# EAGLE library part BMD-100 (library Bluetooth)
RF TXRX MOD BLUETOOTH CHIP ANT Datasheet <https://www.rigado.com/?wpdmdl=1646>
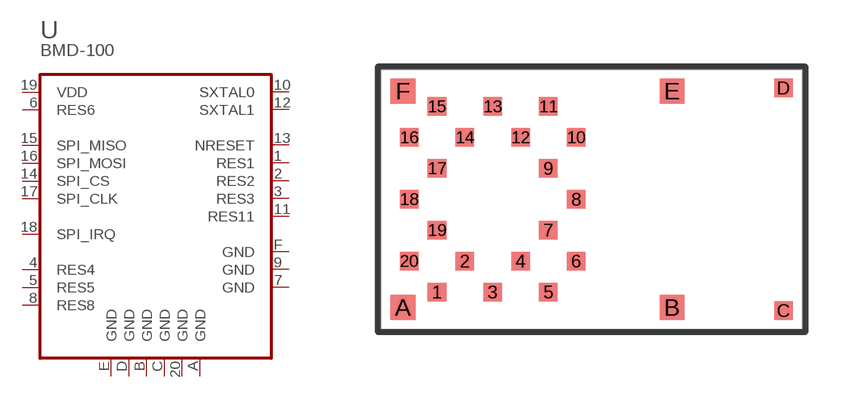
[diagram p2: symbol with the pads of BMD-100; footprint BMD-100]

Designator prefix U

## BMD-100  [BMD-100]
1  RES1
2  RES2
3  RES3
4  RES4
5  RES5
6  RES6
7  GND  pwr
8  RES8
9  GND  pwr
10  SXTAL0
11  RES11
12  SXTAL1
13  NRESET  in
14  SPI_CS  in
15  SPI_MISO  out
16  SPI_MOSI  in
17  SPI_CLK  in
18  SPI_IRQ  out
19  VDD  pwr
20  GND  pwr
A  GND  pwr
B  GND  pwr
C  GND  pwr
D  GND  pwr
E  GND  pwr
F  GND  pwr

## Footprint BMD-100 (pad centres in mm)
BMD-100 Bluetooth Module
smd 0.6 x 0.6: 1 -5,-3; 2 -4.1,-2; 3 -3.2,-3; 4 -2.3,-2; 5 -1.4,-3; 6 -0.5,-2; 7 -1.4,-1; 8 -0.5,0; 9 -1.4,1; 10 -0.5,2; 11 -1.4,3; 12 -2.3,2; 13 -3.2,3; 14 -4.1,2; 15 -5,3; 16 -5.9,2; 17 -5,1; 18 -5.9,0; 19 -5,-1; 20 -5.9,-2; C 6.2,-3.6; D 6.2,3.6
smd 0.8 x 0.8: A -6.1,-3.5; B 2.6,-3.5; E 2.6,3.5; F -6.1,3.5